# Altium footprint library TLV75533PDBVR.PcbLib: 2 footprints
Each footprint in its own frame and in the unit in brackets; x right, y up, seen from the top. Pads: shape width x height; smd on the part's side, far side on the other; paste and mask are expansions set on the pad; w line width, h text height; cw(c..) or ccw(c..) is an arc to the next point about the centre after c.
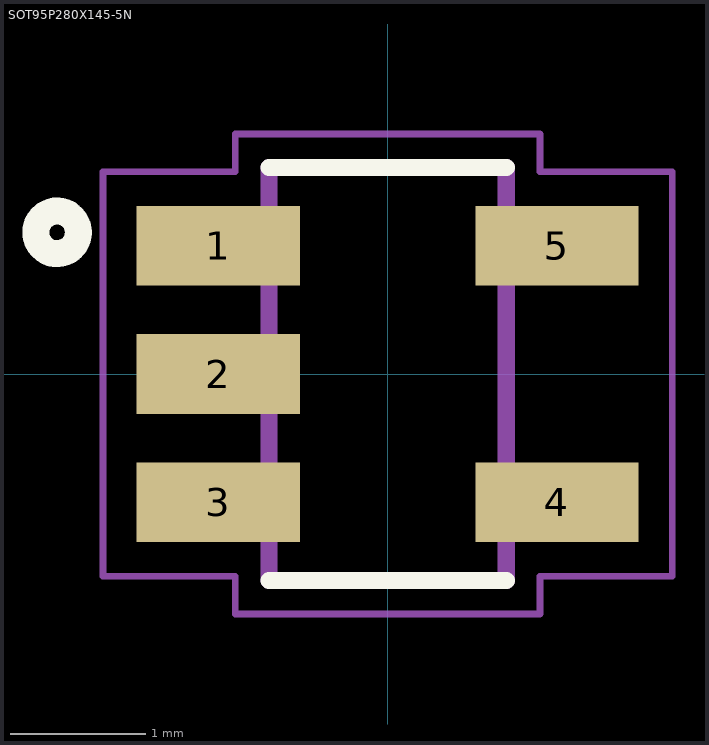
[diagram p0: the footprints below, top view; thin cyan lines are the x and y axes]

## PCBComponent_1 [mm]

## SOT95P280X145-5N [mm]
pads (5):
  rect 1.21x0.59 smd: 1(-1.255,0.95) 2(-1.255,0) 3(-1.255,-0.95) 4(1.255,-0.95) 5(1.255,0.95)
Top Overlay:
  circle w0.2: c-2.45,1.05 r0.158
  lines w0.127: -0.88,-1.53 0.88,-1.53 ; -0.88,1.53 0.88,1.53
Mechanical 13:
  lines w0.127: -0.88,-1.53 -0.88,1.53 ; -0.88,-1.53 0.88,-1.53 ; -0.88,-1.53 -0.88,1.53 ; -0.88,-1.53 0.88,-1.53 ; -0.88,1.53 0.88,1.53 ; -0.88,1.53 0.88,1.53 ; 0.88,-1.53 0.88,1.53 ; 0.88,-1.53 0.88,1.53
Mechanical 15:
  lines w0.05: -2.11,-1.5 -1.13,-1.5 -1.13,-1.78 1.13,-1.78 1.13,-1.5 2.11,-1.5 2.11,1.5 1.13,1.5 1.13,1.78 -1.13,1.78 -1.13,1.5 -2.11,1.5 -2.11,-1.5
3D body "TLV75533PDBVR.stp": height 1.45, standoff 0, extent -1.4,-1.45 1.4,1.45
3D body: height 0.25, standoff 0, extent -0.064,0.762 -0.064,0.762
3D body: height 0.25, standoff 0, extent -0.254,0.381 -0.254,0.381